# Altium footprint library 629105136821.PcbLib: 1 footprints
Each footprint in its own frame and in the unit in brackets; x right, y up, seen from the top. Pads: shape width x height; smd on the part's side, far side on the other; paste and mask are expansions set on the pad; w line width, h text height; cw(c..) or ccw(c..) is an arc to the next point about the centre after c.
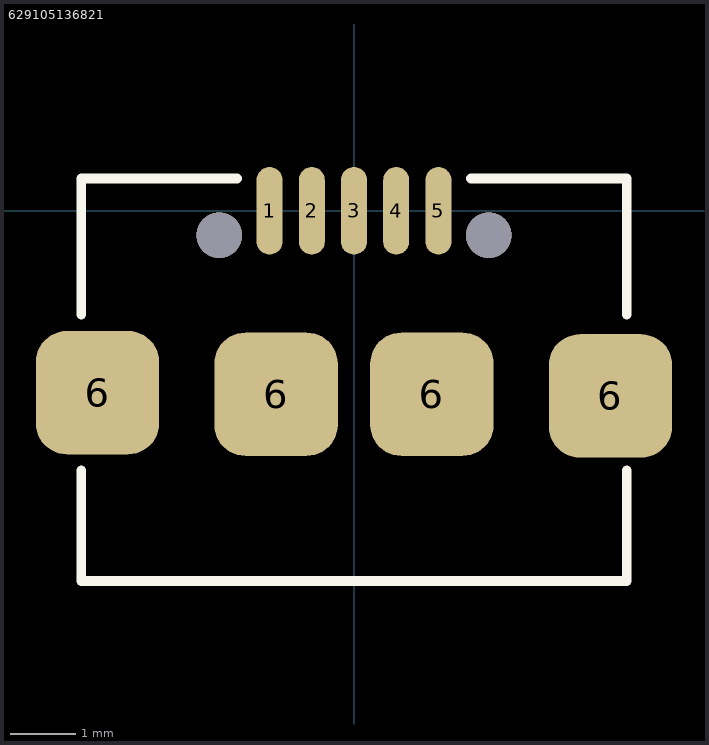
[diagram p0: the footprint, top view; thin cyan lines are the x and y axes]

## 629105136821 [mm]
pads (9):
  oval 0.4x1.35 smd: 1(-1.3,0) 2(-0.65,0) 3(0,0) 4(0.65,0) 5(1.3,0)
  rrect50% 1.9x1.9 smd: 6(-3.95,-2.8) 6(-1.2,-2.825) 6(1.2,-2.825) 6(3.95,-2.85)
via 2.075,-0.375 diameter 0.7 hole 0.7
via -2.075,-0.375 diameter 0.7 hole 0.7
Top Overlay:
  lines w0.15: -4.2,-4 -4.2,-5.7 4.2,-5.7 4.2,-4 ; -4.2,-1.6 -4.2,0.5 -4.1,0.5 -1.8,0.5 ; 1.8,0.5 4.1,0.5 4.2,0.5 4.2,-1.6
3D body "629105136821 (rev1).stp": height 2.67, standoff -0.63, extent -4,-5.578 4,0.325